# EAGLE library part SIM868 (library SIM868)
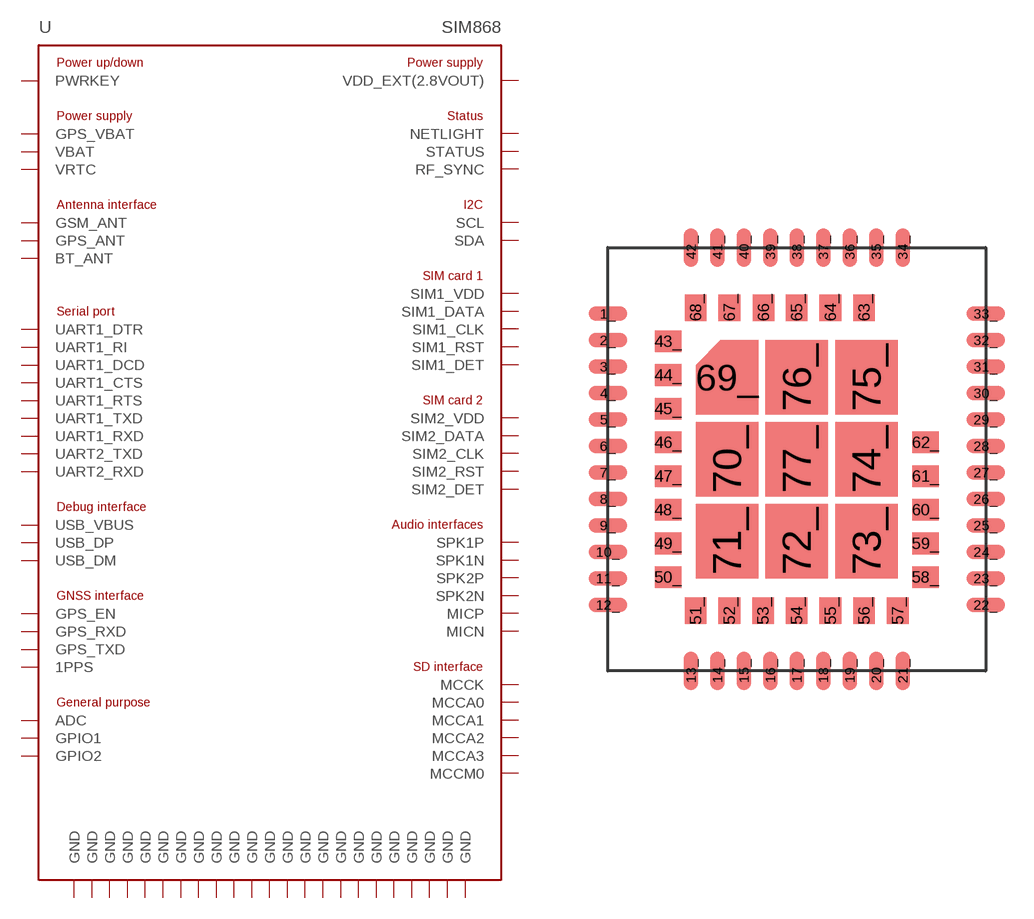
[diagram p0: symbol with the pads of SIM868; footprint SIM868]

Designator prefix U

## SIM868  [SIM868]
1_  UART1_TXD  out
2_  UART1_RXD  in
3_  UART1_RTS  in
4_  UART1_CTS  out
5_  UART1_DCD  out
6_  UART1_DTR  in
7_  UART1_RI  out
8_  GND  pwr
9_  MICP  in
10_  MICN  in
11_  SPK1P  out
12_  SPK1N  out
13_  GND  pwr
14_  SIM1_DET  in
15_  SIM1_DATA
16_  SIM1_CLK  out
17_  SIM1_RST  out
18_  SIM1_VDD  pwr
19_  GND  pwr
20_  BT_ANT
21_  GND  pwr
22_  UART2_TXD  out
23_  UART2_RXD  in
24_  USB_VBUS  pwr
25_  USB_DP
26_  USB_DM
27_  GND  pwr
28_  VRTC  pwr
29_  RF_SYNC  out
30_  GND  pwr
31_  GND  pwr
32_  GSM_ANT  in
33_  GND  pwr
34_  GPS_VBAT  pwr
35_  VBAT  pwr
36_  GND  pwr
37_  GND  pwr
38_  ADC  in
39_  PWRKEY  in
40_  VDD_EXT(2.8VOUT)  pwr
41_  NETLIGHT  out
42_  STATUS  out
43_  SPK2N  out
44_  SPK2P  out
45_  GND  pwr
46_  MCCA3
47_  MCCA2
48_  MCCA1
49_  MCCA0
50_  MCCK
51_  MCCM0
52_  SIM2_DET  in
53_  SIM2_DATA
54_  SIM2_CLK  out
55_  SIM2_RST  out
56_  SIM2_VDD  pwr
57_  GPIO1
58_  GPIO2
59_  GPS_EN  in
60_  1PPS  in
61_  GPS_TXD  out
62_  GPS_RXD  in
63_  GND  pwr
64_  SDA
65_  SCL  out
66_  GND  pwr
67_  GND  pwr
68_  GPS_ANT
69_  GND  pwr
70_  GND  pwr
71_  GND  pwr
72_  GND  pwr
73_  GND  pwr
74_  GND  pwr
75_  GND  pwr
76_  GND  pwr
77_  GND  pwr

## Footprint SIM868 (pad centres in mm)
smd 1.6 x 0.6: 1_ -7.85,6.05; 2_ -7.85,4.95; 3_ -7.85,3.85; 4_ -7.85,2.75; 5_ -7.85,1.65; 6_ -7.85,0.55; 7_ -7.85,-0.55; 8_ -7.85,-1.65; 9_ -7.85,-2.75; 10_ -7.85,-3.85; 11_ -7.85,-4.95; 12_ -7.85,-6.05; 22_ 7.85,-6.05; 23_ 7.85,-4.95; 24_ 7.85,-3.85; 25_ 7.85,-2.75; 26_ 7.85,-1.65; 27_ 7.85,-0.55; 28_ 7.85,0.55; 29_ 7.85,1.65; 30_ 7.85,2.75; 31_ 7.85,3.85; 32_ 7.85,4.95; 33_ 7.85,6.05
smd 0.6 x 1.6: 13_ -4.4,-8.8; 14_ -3.3,-8.8; 15_ -2.2,-8.8; 16_ -1.1,-8.8; 17_ 0,-8.8; 18_ 1.1,-8.8; 19_ 2.2,-8.8; 20_ 3.3,-8.8; 21_ 4.4,-8.8; 34_ 4.4,8.8; 35_ 3.3,8.8; 36_ 2.2,8.8; 37_ 1.1,8.8; 38_ 0,8.8; 39_ -1.1,8.8; 40_ -2.2,8.8; 41_ -3.3,8.8; 42_ -4.4,8.8
smd 1.1 x 0.9: 43_ -5.35,4.9; 44_ -5.35,3.5; 45_ -5.35,2.1; 46_ -5.35,0.7; 47_ -5.35,-0.7; 48_ -5.35,-2.1; 49_ -5.35,-3.5; 50_ -5.35,-4.9; 58_ 5.35,-4.9; 59_ 5.35,-3.5; 60_ 5.35,-2.1; 61_ 5.35,-0.7; 62_ 5.35,0.7
smd 0.9 x 1.1: 51_ -4.2,-6.3; 52_ -2.8,-6.3; 53_ -1.4,-6.3; 54_ 0,-6.3; 55_ 1.4,-6.3; 56_ 2.8,-6.3; 57_ 4.2,-6.3; 63_ 2.8,6.3; 64_ 1.4,6.3; 65_ 0,6.3; 66_ -1.38,6.3; 67_ -2.8,6.3; 68_ -4.2,6.3
smd 2.5 x 2.5: 69_ -2.9,3.4
smd 2.6 x 3.1: 70_ -2.9,0; 71_ -2.9,-3.4; 72_ 0,-3.4; 73_ 2.9,-3.4; 74_ 2.9,0; 75_ 2.9,3.4; 76_ 0,3.4; 77_ 0,0